# EAGLE library part ONET1191P (library yapo)
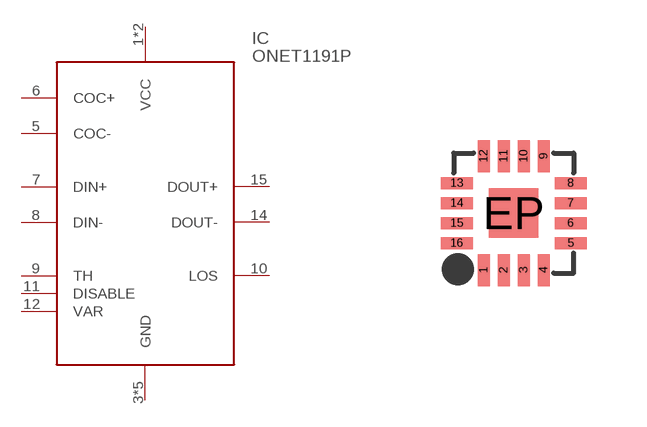
[diagram p78: symbol with the pads of TQFN16; footprint TQFN16]

Designator prefix IC

## ONET1191P  [TQFN16]
1  VCC
2  VCC
3  GND
4  GND
5  COC-
6  COC+
7  DIN+
8  DIN-
9  TH
10  LOS
11  DISABLE
12  VAR
13  GND
14  DOUT-
15  DOUT+
16  GND
EP  GND

## Footprint TQFN16 (pad centres in mm)
smd 0.3 x 0.8: 1 -0.75,-1.425; 2 -0.25,-1.425; 3 0.25,-1.425; 4 0.75,-1.425; 9 0.75,1.425; 10 0.25,1.425; 11 -0.25,1.425; 12 -0.75,1.425
smd 0.8 x 0.3: 5 1.425,-0.75; 6 1.425,-0.25; 7 1.425,0.25; 8 1.425,0.75; 13 -1.425,0.75; 14 -1.425,0.25; 15 -1.425,-0.25; 16 -1.425,-0.75
smd 1.23 x 1.23: EP 0,0